# EAGLE library part 68020-406HLF (library rct_ui_board)
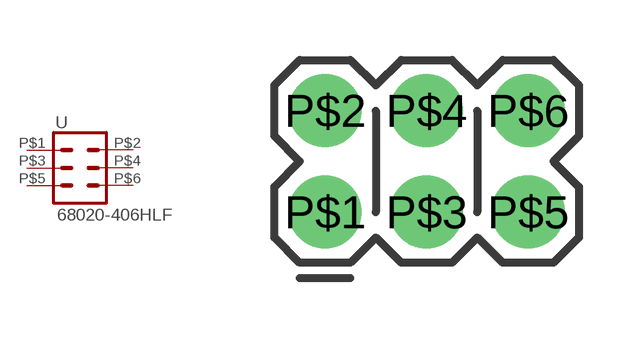
[diagram p3: symbol with the pads of 2X3_THRU; footprint 2X3_THRU]

Designator prefix -

## 68020-406HLF  [2X3_THRU]
P$1  1
P$2  2
P$3  3
P$4  4
P$5  5
P$6  6

## Footprint 2X3_THRU (pad centres in mm)
drill 1.2 pad 1.829: P$1 -2.54,-1.27; P$2 -2.54,1.27; P$3 0,-1.27; P$4 0,1.27; P$5 2.54,-1.27; P$6 2.54,1.27